# Altium footprint library LED3mm.PcbLib: 1 footprints
Each footprint in its own frame and in the unit in brackets; x right, y up, seen from the top. Pads: shape width x height; smd on the part's side, far side on the other; paste and mask are expansions set on the pad; w line width, h text height; cw(c..) or ccw(c..) is an arc to the next point about the centre after c.
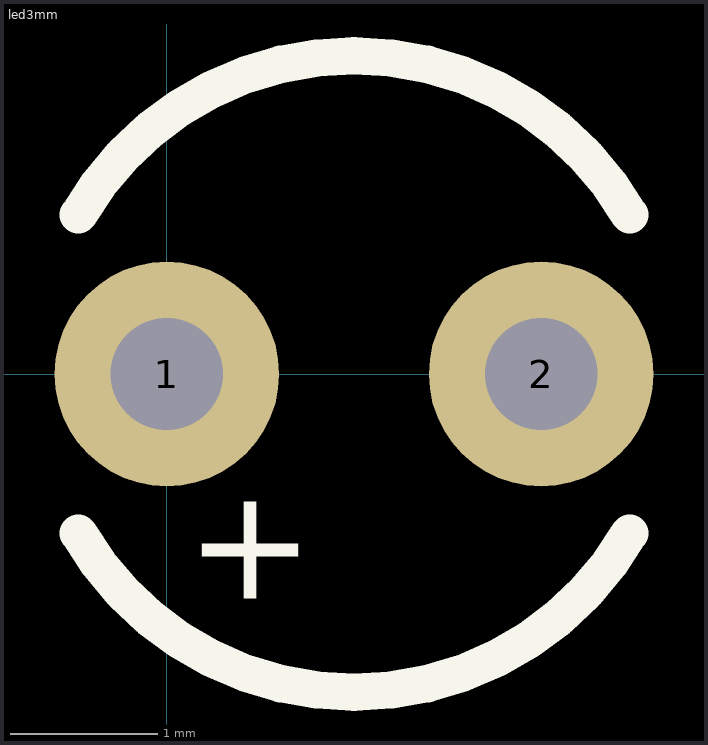
[diagram p0: the footprint, top view; thin cyan lines are the x and y axes]

## led3mm [mil] "3mm LED"
pads (2):
  round 60 hole 30: 1(0,0) 2(100,0)
Top Overlay:
  lines w10: -23.61,-42.5 ccw(c50,0) 123.61,-42.5 ; -23.61,42.5 cw(c50,0) 123.61,42.5
  text "+" at 5,-60 h30
3D body "STEP-WL-TMRC-3mm-wos-rev1.stp": height 208.66, standoff -1039.37, extent -20.78,-75.78 119.77,75.78